# Altium schematic symbol library XT60PW-M.SchLib: 1 symbol
Pins are listed as number, name and electrical type; pins without a type are passive.

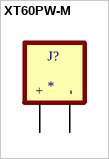
[diagram p0: symbol XT60PW-M]

## XT60PW-M
designator J?
footprint XT60PW-M
pins: 1 +, 2 -